# Altium schematic symbol library MBR0520L.SchLib: 1 symbol
Pins are listed as number, name and electrical type; pins without a type are passive.

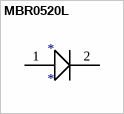
[diagram p0: symbol MBR0520L]

## MBR0520L
designator *
Schottky Diode SOD-123
footprint MBR0520L (schottky diode SOD123)
pins: 1, 2